# Altium footprint library 1394-01.PcbLib: 1 footprints
Each footprint in its own frame and in the unit in brackets; x right, y up, seen from the top. Pads: shape width x height; smd on the part's side, far side on the other; paste and mask are expansions set on the pad; w line width, h text height; cw(c..) or ccw(c..) is an arc to the next point about the centre after c.
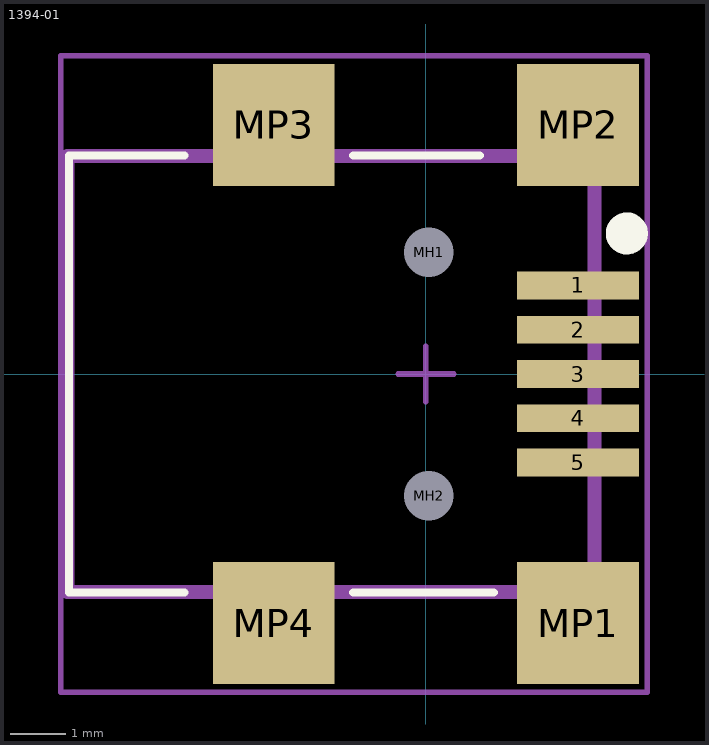
[diagram p0: the footprint, top view; thin cyan lines are the x and y axes]

## 1394-01 [mm] "1394-01, Mini USB"
height 4.05
pads (11):
  rect 2.2x0.5 smd: 1(2.75,1.6) 2(2.75,0.8) 3(2.75,0) 4(2.75,-0.8) 5(2.75,-1.6)
  round 0.6 hole 0.9 unplated: MH1(0.05,2.2) MH2(0.05,-2.2)
  rect 2.2x2.2 smd: MP1(2.75,-4.5) MP2(2.75,4.5) MP3(-2.75,4.5) MP4(-2.75,-4.5)
Top Overlay:
  circle w0.4: c3.63,2.54 r0.18
  lines w0.15: -4.362,-3.95 -6.45,-3.95 -6.45,3.95 -4.362,3.95 ; -1.314,-3.95 1.226,-3.95 ; -1.314,3.95 0.972,3.95
Mechanical 13:
  lines w0.1: -6.45,-3.95 3.05,-3.95 3.05,0 3.05,3.95 -6.45,3.95 -6.45,-3.95
Mechanical 15:
  lines w0.1: -0.5,0 0.5,0 ; 0,-0.5 0,0.5 ; -6.6,-5.75 4,-5.75 4,5.75 -6.6,5.75 -6.6,-5.75
Mechanical 29:
  lines w0.254: -6.477,-3.937 -6.477,3.937 3.048,3.937 3.048,-3.937 -4.064,-3.937 -6.477,-3.937
  text ".Designator" at -2.921,-0.508 h1.52
3D body: height 4.15, standoff -0.93, extent -5.842,-4.95 3.358,4.95